# EAGLE library part USB_MICRO_B_SMD_FEMALE (library SCADA_CUSTOM_LIBRARY)
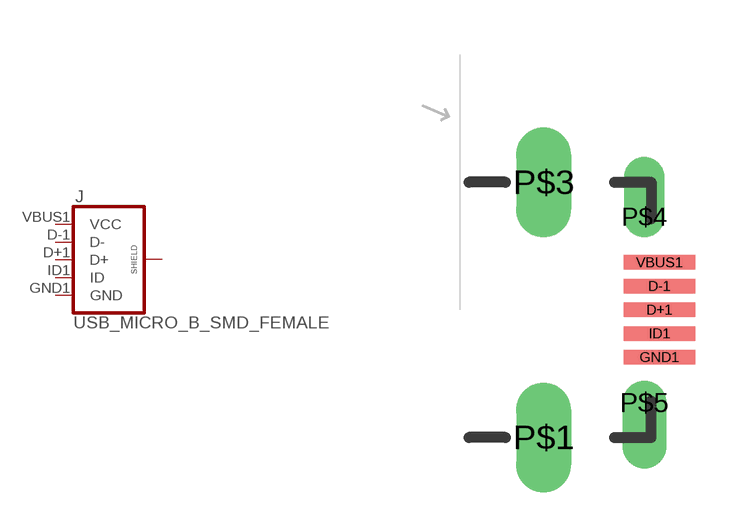
[diagram p13: symbol with the pads of USB-B-MICRO-SMD; footprint USB-B-MICRO-SMD]

Designator prefix J

## USB_MICRO_B_SMD_FEMALE  [USB-B-MICRO-SMD]
D+1  D+
D-1  D-
GND1  GND  pas
ID1  ID
P$1  SHIELD  pas
P$3  SHIELD  pas
P$4  SHIELD  pas
P$5  SHIELD  pas
VBUS1  VCC  pas

## Footprint USB-B-MICRO-SMD (pad centres in mm)
smd 1.958 x 0.4: D+1 5.345,3.73; D-1 5.345,4.38; GND1 5.345,2.43; ID1 5.345,3.08; VBUS1 5.345,5.03
drill 1 pad 1.5 long: P$1 2.17,0.23; P$3 2.17,7.23
drill 0.6 offset: P$4 4.93,6.27
drill 0.7 offset: P$5 4.93,1.19